# EAGLE library part ADMV1014 (library Analog Devices)
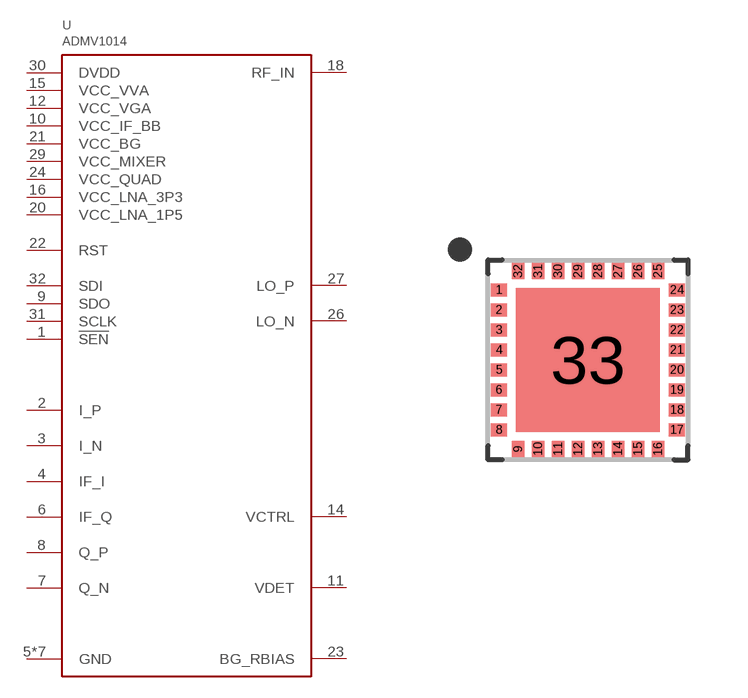
[diagram p59: symbol with the pads of LGA32; footprint LGA32]

Designator prefix U

## ADMV1014  [LGA32]
1  !SEN  in
2  I_P  in
3  I_N  in
4  IF_I  in
5  GND
6  IF_Q  in
7  Q_N  in
8  Q_P  in
9  SDO  out
10  VCC_IF_BB  sup
11  VDET  in
12  VCC_VGA  sup
13  GND
14  VCTRL  in
15  VCC_VVA  sup
16  VCC_LNA_3P3  sup
17  GND
18  RF_IN  in
19  GND
20  VCC_LNA_1P5  sup
21  VCC_BG  sup
22  RST  in
23  BG_RBIAS
24  VCC_QUAD  sup
25  GND
26  LO_N  in
27  LO_P  in
28  GND
29  VCC_MIXER  sup
30  DVDD  sup
31  SCLK  in
32  SDI  in
33  GND

## Footprint LGA32 (pad centres in mm)
smd 0.4 x 0.32: 1 -2.225,1.75; 2 -2.225,1.25; 3 -2.225,0.75; 4 -2.225,0.25; 5 -2.225,-0.25; 6 -2.225,-0.75; 7 -2.225,-1.25; 8 -2.225,-1.75; 17 2.225,-1.75; 18 2.225,-1.25; 19 2.225,-0.75; 20 2.225,-0.25; 21 2.225,0.25; 22 2.225,0.75; 23 2.225,1.25; 24 2.225,1.75
smd 0.32 x 0.4: 9 -1.75,-2.225; 10 -1.25,-2.225; 11 -0.75,-2.225; 12 -0.25,-2.225; 13 0.25,-2.225; 14 0.75,-2.225; 15 1.25,-2.225; 16 1.75,-2.225; 25 1.75,2.225; 26 1.25,2.225; 27 0.75,2.225; 28 0.25,2.225; 29 -0.25,2.225; 30 -0.75,2.225; 31 -1.25,2.225; 32 -1.75,2.225
smd 3.6 x 3.6: 33 0,0